# EAGLE library part MAX3221CPWR (library untitled)
RS-232 Line driver/receiver
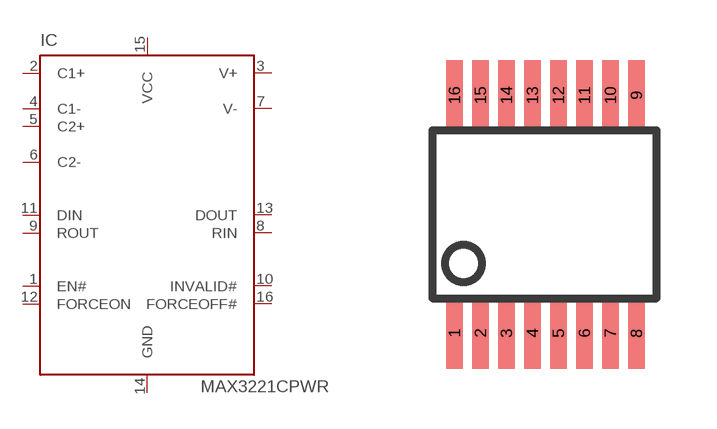
[diagram p0: symbol with the pads of TSSOP-16; footprint TSSOP-16]

Designator prefix IC

## MAX3221CPWRG, MAX3221CPWRXS  [TSSOP-16]
1  EN#  pas
2  C1+  in
3  V+  in
4  C1-  in
5  C2+  in
6  C2-  in
7  V-  in
8  RIN  in
9  ROUT  out
10  INVALID#  pas
11  DIN  in
12  FORCEON  in
13  DOUT  out
14  GND  pwr
15  VCC  pwr
16  FORCEOFF#  in

## Footprint TSSOP-16 (pad centres in mm)
TSSOP-16
smd 0.42 x 1.78: 1 -2.3,-2.975; 2 -1.65,-2.975; 3 -1,-2.975; 4 -0.35,-2.975; 5 0.3,-2.975; 6 0.95,-2.975; 7 1.6,-2.975; 8 2.25,-2.975; 9 2.25,2.975; 10 1.6,2.975; 11 0.95,2.975; 12 0.3,2.975; 13 -0.35,2.975; 14 -1,2.975; 15 -1.65,2.975; 16 -2.3,2.975